# Altium schematic symbol library Tactile Switch TS-1109S-B-B.Schlib: 1 symbol
Pins are listed as number, name and electrical type; pins without a type are passive.

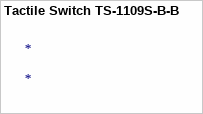
[diagram p0: symbol Tactile Switch TS-1109S-B-B]

## Tactile Switch TS-1109S-B-B
designator *